# EAGLE library part 1393277-4 (library my-library)
1393277-4 Datasheet <https://www.mouser.in/datasheet/2/418/PA_DS_V23076-X0000-A001_0616-583846.pdf> Mouser <https://www.mouser.in/ProductDetail/TE-Connectivity-AMP/1393277-4?qs=5zk1Hy0mDQ4xJPy0Hgtv9w==>
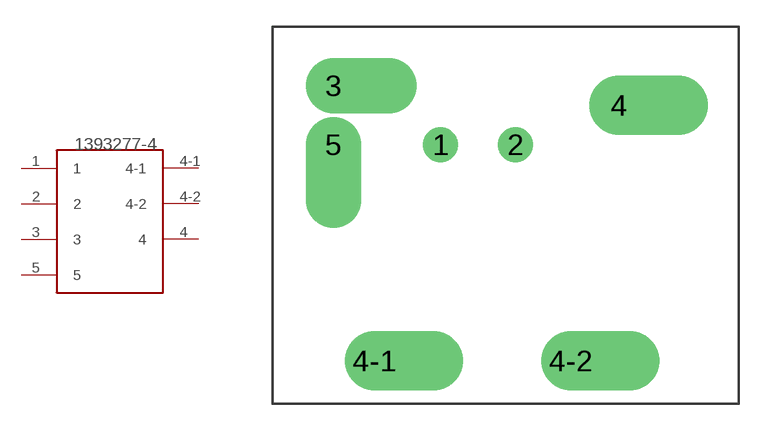
[diagram p0: symbol with the pads of 1393277-4; footprint 1393277-4]

Designator prefix -

## 1393277-4THT  [1393277-4]
1  1
2  2
3  3
4  4
4-1  4-1
4-2  4-2
5  5

## Footprint 1393277-4 (pad centres in mm)
drill 1.3: 1 9.4,14.5; 2 13.6,14.5
drill 2.1 pad 2.7 offset: 3 3.4,17.8; 5 3.4,14.5
drill 2.3 offset: 4 19.4,16.7; 4-1 5.7,2.4; 4-2 16.7,2.4